# EAGLE library part MISC-TXB0104D (library tidyeagle)
Texas Instruments 4-Bit Voltage Level Translator in SO14 package. Datasheet: Full <http://focus.ti.com/lit/ds/symlink/txb0104.pdf> Application note: VCCA must be less than or equal to VCCB.
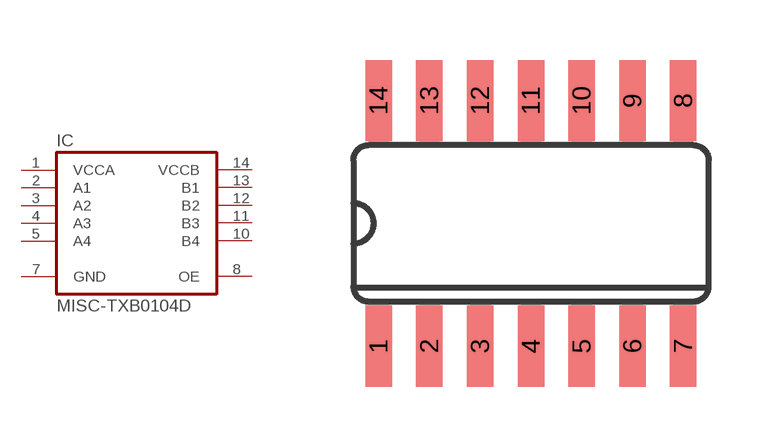
[diagram p3: symbol with the pads of SO14; footprint SO14]

Designator prefix IC

## MISC-TXB0104D-SO14  [SO14]
1  VCCA  pwr
2  A1
3  A2
4  A3
5  A4
7  GND  pwr
8  OE
10  B4
11  B3
12  B2
13  B1
14  VCCB  pwr

## Footprint SO14 (pad centres in mm)
Small Outline package 150 mil
smd 0.66 x 2.032: 1 -3.81,-3.073; 2 -2.54,-3.073; 3 -1.27,-3.073; 4 0,-3.073; 5 1.27,-3.073; 6 2.54,-3.073; 7 3.81,-3.073; 8 3.81,3.073; 9 2.54,3.073; 10 1.27,3.073; 11 0,3.073; 12 -1.27,3.073; 13 -2.54,3.073; 14 -3.81,3.073